# Altium footprint library WS-ROTU.PcbLib: 8 footprints
Each footprint in its own frame and in the unit in brackets; x right, y up, seen from the top. Pads: shape width x height; smd on the part's side, far side on the other; paste and mask are expansions set on the pad; w line width, h text height; cw(c..) or ccw(c..) is an arc to the next point about the centre after c.
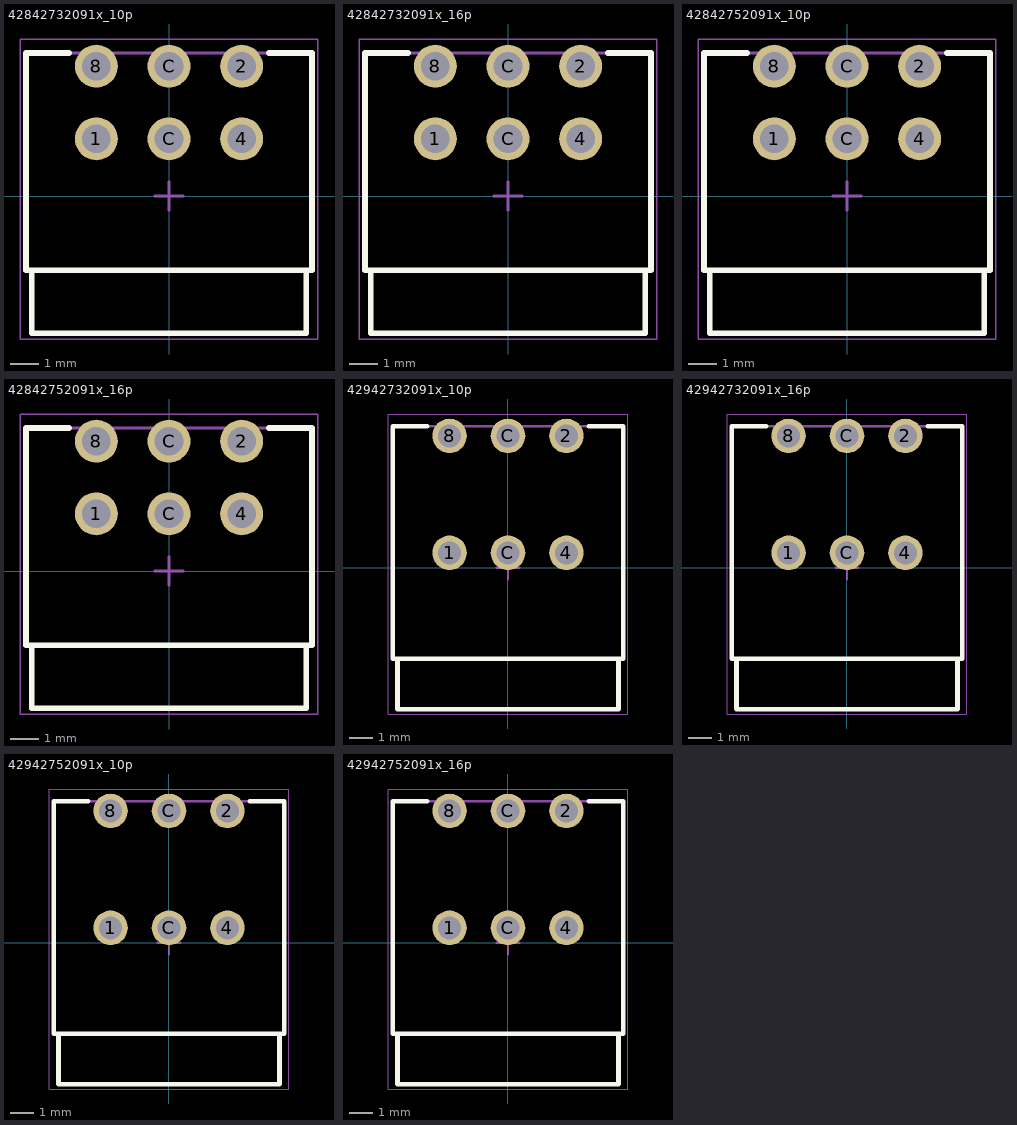
[diagram p0: the footprints below, top view; thin cyan lines are the x and y axes]

## 42842732091x_10p [mm] "10x10 mm washable THT right angled arrow type Pitch 2.54 mm, 10 position"
height 10
pads (6):
  round 1.5 hole 1: 1(-2.54,2) 2(2.54,4.54) 4(2.54,2) 8(-2.54,4.54) C(0,2) C(0,4.54)
Top Overlay:
  lines w0.2: -4.8,-2.6 -4.8,-4.8 4.8,-4.8 4.8,-2.6 ; -3.5,5 -5,5 -5,-2.6 5,-2.6 5,5 3.5,5
Top Assembly:
  lines w0.1: -4.8,-2.6 -4.8,-4.8 4.8,-4.8 4.8,-2.6 ; -5,-2.6 5,-2.6 5,5 -5,5 -5,-2.6
Top Designator:
  text ".Designator" at -3.647,-0.357 h1
Top Courtyard:
  lines w0.05: -5.2,-5 -5.2,5.49 5.2,5.49 5.2,-5 -5.2,-5
Top Component Center:
  lines w0.1: -0.5,0 0.5,0 ; 0,-0.5 0,0.5
3D body "42842732091x_10_Pos.stp": height 10.1, standoff -3.4, extent -5,-4.8 5,5

## 42842732091x_16p [mm] "10x10 mm washable THT right angled arrow type Pitch 2.54 mm, 16 position"
height 10
pads (6):
  round 1.5 hole 1: 1(-2.54,2) 2(2.54,4.54) 4(2.54,2) 8(-2.54,4.54) C(0,2) C(0,4.54)
Top Overlay:
  lines w0.2: -4.8,-2.6 -4.8,-4.8 4.8,-4.8 4.8,-2.6 ; -3.5,5 -5,5 -5,-2.6 5,-2.6 5,5 3.5,5
Top Assembly:
  lines w0.1: -4.8,-2.6 -4.8,-4.8 4.8,-4.8 4.8,-2.6 ; -5,-2.6 -5,5 5,5 5,-2.6 -5,-2.6
Top Designator:
  text ".Designator" at -3.647,-0.357 h1
Top Courtyard:
  lines w0.05: -5.2,-5 -5.2,5.49 5.2,5.49 5.2,-5 -5.2,-5
Top Component Center:
  lines w0.1: -0.5,0 0.5,0 ; 0,-0.5 0,0.5
3D body "42842732091x_16_Pos.stp": height 10.1, standoff -3.4, extent -5,-4.8 5,5

## 42842752091x_10p [mm] "10x10 mm washable THT right angled cross type Pitch 2.54 mm, 10 position"
height 10
pads (6):
  round 1.5 hole 1: 1(-2.54,2) 2(2.54,4.54) 4(2.54,2) 8(-2.54,4.54) C(0,2) C(0,4.54)
Top Overlay:
  lines w0.2: -4.8,-2.6 -4.8,-4.8 4.8,-4.8 4.8,-2.6 ; -3.5,5 -5,5 -5,-2.6 5,-2.6 5,5 3.5,5
Top Assembly:
  lines w0.1: -4.8,-2.6 -4.8,-4.8 4.8,-4.8 4.8,-2.6 ; -5,-2.6 -5,5 5,5 5,-2.6 -5,-2.6
Top Designator:
  text ".Designator" at -3.647,-0.357 h1
Top Courtyard:
  lines w0.05: -5.2,-5 -5.2,5.49 5.2,5.49 5.2,-5 -5.2,-5
Top Component Center:
  lines w0.1: -0.5,0 0.5,0 ; 0,-0.5 0,0.5
3D body "42842752091x_10_Pos.stp": height 10.1, standoff -3.4, extent -5,-4.8 5,5

## 42842752091x_16p [mm] "10x10 mm washable THT right angled cross type Pitch 2.54 mm, 16 position"
height 10
pads (6):
  round 1.5 hole 1: 1(-2.54,2) 2(2.54,4.54) 4(2.54,2) 8(-2.54,4.54) C(0,2) C(0,4.54)
Top Overlay:
  lines w0.2: -4.8,-2.6 -4.8,-4.8 4.8,-4.8 4.8,-2.6 ; -3.5,5 -5,5 -5,-2.6 5,-2.6 5,5 3.5,5
Top Assembly:
  lines w0.1: -4.8,-2.6 -4.8,-4.8 4.8,-4.8 4.8,-2.6 ; -5,-2.6 5,-2.6 5,5 -5,5 -5,-2.6
Top Designator:
  text ".Designator" at -3.647,-0.357 h1
Top Courtyard:
  lines w0.05: -5.2,-5 5.2,-5 5.2,5.49 -5.2,5.49 -5.2,-5
Top Component Center:
  lines w0.1: -0.5,0 0.5,0 ; 0,-0.5 0,0.5
3D body "42842752091x_16_Pos.stp": height 10.1, standoff -3.4, extent -5,-4.8 5,5

## 42942732091x_10p [mm] "10x10 mm washable THT right angled arrow type Pitch 5.08 mm, 10 position"
height 10
pads (6):
  round 1.5 hole 1: 1(-2.54,0.65) 2(2.54,5.73) 4(2.54,0.65) 8(-2.54,5.73) C(0,0.65) C(0,5.73)
Top Overlay:
  lines w0.2: -4.8,-3.95 -4.8,-6.15 4.8,-6.15 4.8,-3.95 ; -3.5,6.15 -5,6.15 -5,-3.95 5,-3.95 5,6.15 3.5,6.15
Top Assembly:
  lines w0.1: -4.8,-3.95 -4.8,-6.15 4.8,-6.15 4.8,-3.95 ; -5,-3.95 5,-3.95 5,6.15 -5,6.15 -5,-3.95
Top Designator:
  text ".Designator" at -3.647,-0.357 h1
Top Courtyard:
  lines w0.05: -5.2,-6.35 5.2,-6.35 5.2,6.68 -5.2,6.68 -5.2,-6.35
Top Component Center:
  lines w0.1: -0.5,0 0.5,0 ; 0,-0.5 0,0.5
3D body "42942732091x_10_Pos.stp": height 10.1, standoff -3.4, extent -5,-6.15 5,6.15

## 42942732091x_16p [mm] "10x10 mm washable THT right angled arrow type Pitch 5.08 mm, 16 position"
height 10
pads (6):
  round 1.5 hole 1: 1(-2.54,0.65) 2(2.54,5.73) 4(2.54,0.65) 8(-2.54,5.73) C(0,0.65) C(0,5.73)
Top Overlay:
  lines w0.2: -4.8,-3.95 -4.8,-6.15 4.8,-6.15 4.8,-3.95 ; -3.5,6.15 -5,6.15 -5,-3.95 5,-3.95 5,6.15 3.5,6.15
Top Assembly:
  lines w0.1: -4.8,-3.95 -4.8,-6.15 4.8,-6.15 4.8,-3.95 ; -5,-3.95 5,-3.95 5,6.15 -5,6.15 -5,-3.95
Top Designator:
  text ".Designator" at -3.647,-0.357 h1
Top Courtyard:
  lines w0.05: -5.2,-6.35 5.2,-6.35 5.2,6.68 -5.2,6.68 -5.2,-6.35
Top Component Center:
  lines w0.1: -0.5,0 0.5,0 ; 0,-0.5 0,0.5
3D body "42942732091x_16_Pos.stp": height 10.1, standoff -3.4, extent -5,-6.15 5,6.15

## 42942752091x_10p [mm] "10x10 mm washable THT right angled cross type Pitch 5.08 mm, 10 position"
height 10
pads (6):
  round 1.5 hole 1: 1(-2.54,0.65) 2(2.54,5.73) 4(2.54,0.65) 8(-2.54,5.73) C(0,0.65) C(0,5.73)
Top Overlay:
  lines w0.2: -4.8,-3.95 -4.8,-6.15 4.8,-6.15 4.8,-3.95 ; -3.5,6.15 -5,6.15 -5,-3.95 5,-3.95 5,6.15 3.5,6.15
Top Assembly:
  lines w0.1: -4.8,-3.95 -4.8,-6.15 4.8,-6.15 4.8,-3.95 ; -5,-3.95 -5,6.15 5,6.15 5,-3.95 -5,-3.95
Top Designator:
  text ".Designator" at -3.647,-0.357 h1
Top Courtyard:
  lines w0.05: -5.2,-6.35 -5.2,6.68 5.2,6.68 5.2,-6.35 -5.2,-6.35
Top Component Center:
  lines w0.1: -0.5,0 0.5,0 ; 0,-0.5 0,0.5
3D body "42942752091x_10_Pos.stp": height 10.1, standoff -3.4, extent -5,-6.15 5,6.15

## 42942752091x_16p [mm] "10x10 mm washable THT right angled cross type Pitch 5.08 mm, 16 position"
height 10
pads (6):
  round 1.5 hole 1: 1(-2.54,0.65) 2(2.54,5.73) 4(2.54,0.65) 8(-2.54,5.73) C(0,0.65) C(0,5.73)
Top Overlay:
  lines w0.2: -4.8,-3.95 -4.8,-6.15 4.8,-6.15 4.8,-3.95 ; -3.5,6.15 -5,6.15 -5,-3.95 5,-3.95 5,6.15 3.5,6.15
Top Assembly:
  lines w0.1: -4.8,-3.95 -4.8,-6.15 4.8,-6.15 4.8,-3.95 ; -5,-3.95 -5,6.15 5,6.15 5,-3.95 -5,-3.95
Top Designator:
  text ".Designator" at -3.647,-0.357 h1
Top Courtyard:
  lines w0.05: -5.2,-6.35 -5.2,6.68 5.2,6.68 5.2,-6.35 -5.2,-6.35
Top Component Center:
  lines w0.1: -0.5,0 0.5,0 ; 0,-0.5 0,0.5
3D body "42942752091x_16_Pos.stp": height 10.1, standoff -3.4, extent -5,-6.15 5,6.15